# EAGLE library part INA105 (library burr-brown)
Precision Unity Gain Diff. Amplifier
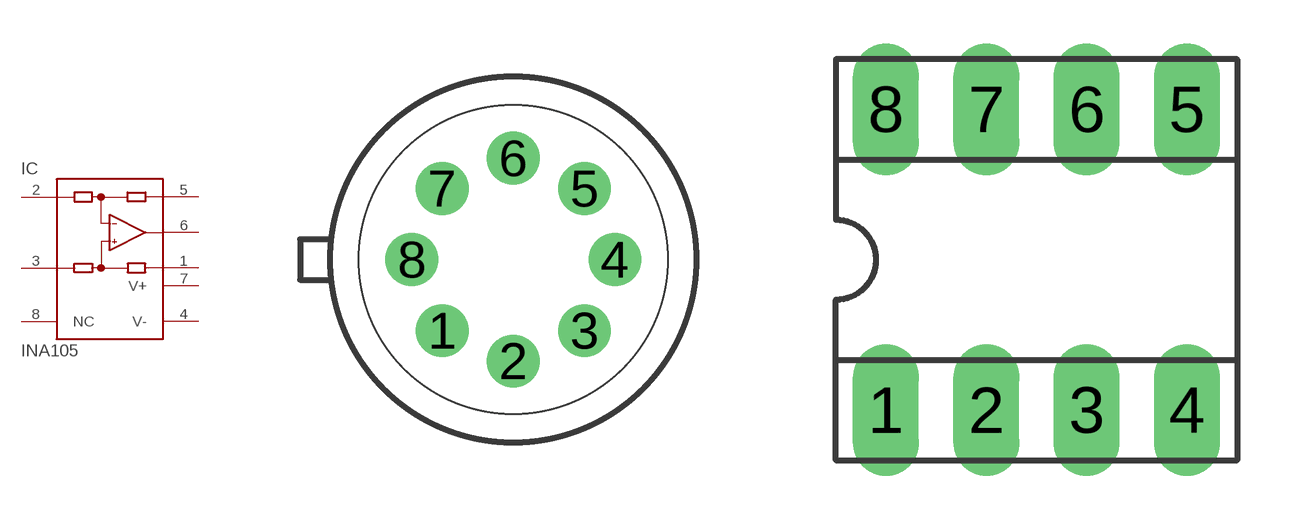
[diagram p126: symbol with the pads of TO99; footprints TO99, DIL08]

Designator prefix IC

## INA105M (MF: TEXAS INSTRUMENT CONNECTORS; MPN: INA105BM; OC_FARNELL: 1459423; OC_NEWARK: 88K1114)  [TO99]
1  REF  pas
2  -IN  in
3  +IN  in
4  V-  pwr
5  SENSE  pas
6  OUT  out
7  V+  pwr
8  NC  nc

## INA105P (MF: TEXAS INSTRUMENTS; MPN: INA105KP; OC_FARNELL: 1651850; OC_NEWARK: 04M4538)  [DIL08]
Pads as for TO99

## INA105U (MF: TEXAS INSTRUMENTS; MPN: INA105KU; OC_FARNELL: 1754832; OC_NEWARK: 35C0475)  [SO08]
Pads as for TO99

## Footprint TO99 (pad centres in mm)
Metal can Package
drill 0.813: 1 -1.778,-1.778; 2 0,-2.54; 3 1.778,-1.778; 4 2.54,0; 5 1.778,1.778; 6 0,2.54; 7 -1.778,1.778; 8 -2.54,0

## Footprint DIL08 (pad centres in mm)
Dual In Line
drill 0.75 pad 1.676 long: 1 -3.81,-3.81; 2 -1.27,-3.81; 3 1.27,-3.81; 4 3.81,-3.81; 5 3.81,3.81; 6 1.27,3.81; 7 -1.27,3.81; 8 -3.81,3.81

## Footprint SO08 (pad centres in mm)
Small Outline Package
smd 0.61 x 2.21: 1 -1.905,-2.616; 2 -0.635,-2.616; 3 0.635,-2.616; 4 1.905,-2.616; 5 1.905,2.616; 6 0.635,2.616; 7 -0.635,2.616; 8 -1.905,2.616